# Altium footprint library B02BPASKLFSN.PcbLib: 1 footprints
Each footprint in its own frame and in the unit in brackets; x right, y up, seen from the top. Pads: shape width x height; smd on the part's side, far side on the other; paste and mask are expansions set on the pad; w line width, h text height; cw(c..) or ccw(c..) is an arc to the next point about the centre after c.
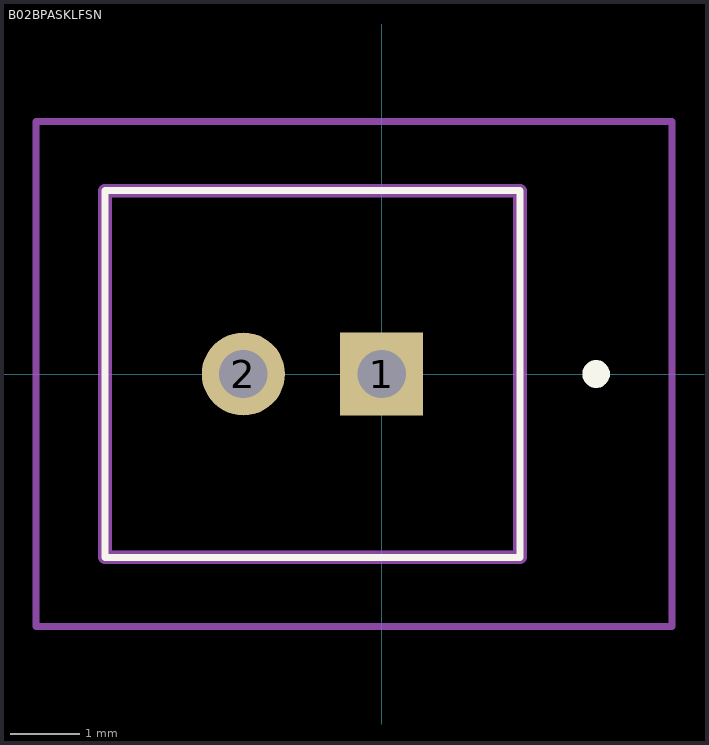
[diagram p0: the footprint, top view; thin cyan lines are the x and y axes]

## B02BPASKLFSN [mm]
pads (2):
  rect 1.2x1.2 hole 0.7: 1(0,0)
  round 1.2 hole 0.7: 2(-2,0)
Top Overlay:
  lines w0.1: -4,-2.65 2,-2.65 2,2.65 -4,2.65 -4,-2.65
  lines w0.2: 3,0 3,0 ; 3,0 ccw(c3.1,0) 3.2,0 ; 3,0 cw(c3.1,0) 3.2,0 ; 3.2,0 3.2,0
Mechanical 15:
  lines w0.2: -4,-2.65 2,-2.65 2,2.65 -4,2.65 -4,-2.65
Mechanical 20:
  lines w0.1: -5,-3.65 4.2,-3.65 4.2,3.65 -5,3.65 -5,-3.65